# EAGLE library part VQB71 (library be_opt)
edited: Mario Blunk / Blunk electronic
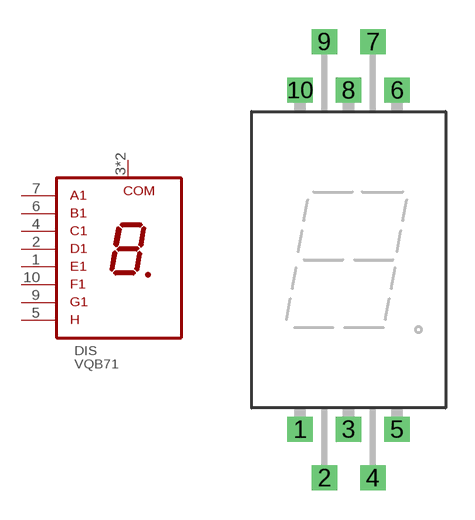
[diagram p1: symbol with the pads of T_VQB71; footprint T_VQB71]

Designator prefix DIS

## VQB71 (BOM: YES; COMMISSIONED: 2015-10-02; PART_CODE_BEL: DIS_PAC_T_VQB71_VAL_VQB71)  [T_VQB71]
1  E1  pas
2  D1  pas
3  COM1  pas
4  C1  pas
5  DP1  pas
6  B1  pas
7  A1  pas
8  COM1  pas
9  G1  pas
10  F1  pas

## Footprint T_VQB71 (pad centres in mm)
edited: Mario Blunk / Blunk electronic date: 2015-10-02
drill 0.8 square: 1 -2.5,-8.75; 2 -1.25,-11.25; 3 0,-8.75; 4 1.25,-11.25; 5 2.5,-8.75; 6 2.5,8.75; 7 1.25,11.25; 8 0,8.75; 9 -1.25,11.25; 10 -2.5,8.75